# Altium footprint library MainBoard.PcbLib: 34 footprints (part 2 of 3)
Each footprint in its own frame and in the unit in brackets; x right, y up, seen from the top. Pads: shape width x height; smd on the part's side, far side on the other; paste and mask are expansions set on the pad; w line width, h text height; cw(c..) or ccw(c..) is an arc to the next point about the centre after c.
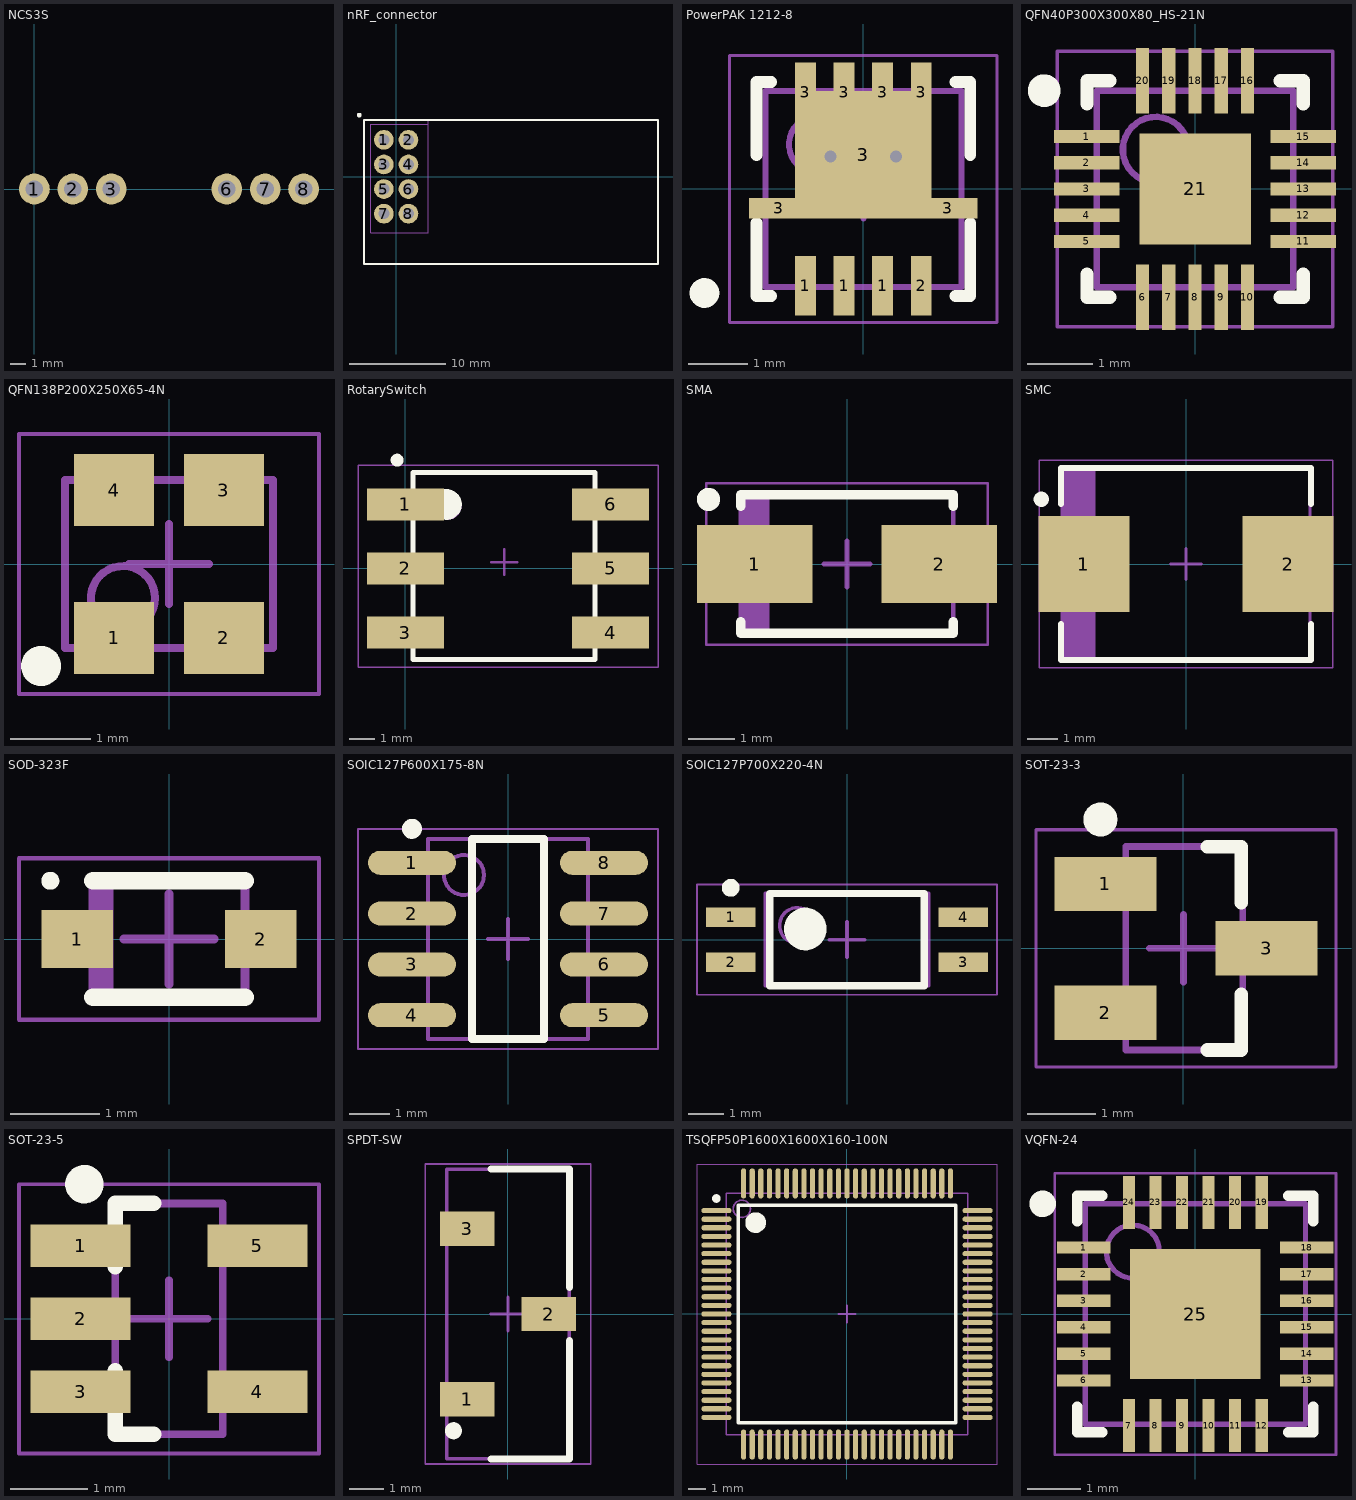
[diagram p1: the footprints below, top view; thin cyan lines are the x and y axes]

## NCS3S [mil] "8-DIP Module"
height 445
pads (6):
  round 80 hole 45: 1(0,0) 2(100,0) 3(200,0) 6(500,0) 7(600,0) 8(700,0)
3D body: height 448.43, standoff -150, extent -79.13,-268.5 779.14,98.43

## nRF_connector [mil]
height 590.55
pads (8):
  round 80 hole 45: 1(-50,150) 2(50,150) 3(-50,50) 4(50,50) 5(-50,-50) 6(50,-50) 7(-50,-150) 8(50,-150)
Top Overlay:
  circle w9.84: c-150,250 r4.92
  lines w7.87: -130,-354.33 -130,230 1062.99,230 1062.99,-354.33 -130,-354.33
Mechanical 13:
  lines w3.94: -102.36,-227.36 -102.36,212.6 130,212.6 130,-227.36 -102.36,-227.36
Mechanical 15:
  lines w1.97: -130,-227.36 -130,230.31 130,230.31 130,-227.36
  lines w3.94: 29.33,50.98 68.7,50.98 ; 49.02,31.3 49.02,70.67
3D body: height 433.07, standoff 393.7, extent -130,-354.33 1062.99,230.31
3D body: height 409.45, standoff 20.08, extent -102.36,-227.36 130,212.6

## PowerPAK 1212-8 [mm] "QFN, 10-Leads, Body 3,30x3,30mm, Pitch 0,65mm, Thermal Pad 2,11x2,11mm, IPC Medium Density"
height 1.04
pads (11):
  rect 0.35x1 smd: 1(-0.975,-1.63) 1(-0.325,-1.63) 1(0.325,-1.63) 2(0.975,-1.63) 3(-0.975,1.63) 3(-0.325,1.63) 3(0.325,1.63) 3(0.975,1.63)
  rect 1x0.35 smd: 3(-1.425,-0.325) 3(1.425,-0.325)
  rect 2.3x2.15 smd: 3(0,0.575)
via 0.55,0.55 diameter 0.5 hole 0.2
via -0.55,0.55 diameter 0.5 hole 0.2
Top Overlay:
  circle w0.25: c-2.675,-1.75 r0.125
  lines w0.2: -1.8,-0.575 -1.8,-1.8 -1.55,-1.8 ; -1.8,0.575 -1.8,1.8 -1.55,1.8 ; 1.55,-1.8 1.8,-1.8 1.8,-0.575 ; 1.55,1.8 1.8,1.8 1.8,0.575
Mechanical 13:
  circle w0.1: c-0.75,0.75 r0.5
  lines w0.1: -1.65,-1.65 1.65,-1.65 1.65,1.65 -1.65,1.65 -1.65,-1.65
Mechanical 15:
  lines w0.05: -2.25,-2.25 2.25,-2.25 2.25,2.25 -2.25,2.25 -2.25,-2.25
  lines w0.1: -0.5,0 0.5,0 ; 0,-0.5 0,0.5
3D body: height 1.04, standoff 0.05, extent -1.65,-1.65 1.65,1.65

## QFN40P300X300X80_HS-21N [mm] "QFN, 20-Leads, Body 3,00x3,00mm, Pitch 0,40mm, Thermal Pad 1,70x1,70mm, IPC Medium Density"
height 0.8
pads (21):
  rect 1x0.2 smd: 1(-1.65,0.8) 2(-1.65,0.4) 3(-1.65,0) 4(-1.65,-0.4) 5(-1.65,-0.8) 11(1.65,-0.8) 12(1.65,-0.4) 13(1.65,0) 14(1.65,0.4) 15(1.65,0.8)
  rect 0.2x1 smd: 6(-0.8,-1.65) 7(-0.4,-1.65) 8(0,-1.65) 9(0.4,-1.65) 10(0.8,-1.65) 16(0.8,1.65) 17(0.4,1.65) 18(0,1.65) 19(-0.4,1.65) 20(-0.8,1.65)
  rect 1.7x1.7 smd: 21(0,0)
Top Overlay:
  circle w0.25: c-2.3,1.5 r0.125
  lines w0.2: -1.65,-1.3 -1.65,-1.65 -1.3,-1.65 ; -1.65,1.3 -1.65,1.65 -1.3,1.65 ; 1.3,-1.65 1.65,-1.65 1.65,-1.3 ; 1.3,1.65 1.65,1.65 1.65,1.3
Mechanical 13:
  circle w0.1: c-0.6,0.6 r0.5
  lines w0.1: -1.5,-1.5 1.5,-1.5 1.5,1.5 -1.5,1.5 -1.5,-1.5
Mechanical 15:
  lines w0.05: -2.1,-2.1 2.1,-2.1 2.1,2.1 -2.1,2.1 -2.1,-2.1
  lines w0.1: -0.5,0 0.5,0 ; 0,-0.5 0,0.5
3D body: height 0.8, standoff 0.05, extent -1.5,-1.5 1.5,1.5

## QFN138P200X250X65-4N [mm] "QFN, 4-Leads, Body 2,00x2,50mm, Pitch 1,63mm/1,38mm, IPC Medium Density"
height 0.65
pads (4):
  rect 1x0.9 smd: 1(-0.687,-0.925) 2(0.687,-0.925) 3(0.687,0.925) 4(-0.687,0.925)
Top Overlay:
  circle w0.25: c-1.6,-1.275 r0.125
Mechanical 13:
  circle w0.1: c-0.575,-0.425 r0.4
  lines w0.1: -1.3,-1.05 1.3,-1.05 1.3,1.05 -1.3,1.05 -1.3,-1.05
Mechanical 15:
  lines w0.05: -1.875,-1.625 1.875,-1.625 1.875,1.625 -1.875,1.625 -1.875,-1.625
  lines w0.1: -0.5,0 0.5,0 ; 0,-0.5 0,0.5
3D body: height 0.65, standoff 0.1, extent -1.3,-1.05 1.3,1.05

## RotarySwitch [mm] "SOP, 4-Leads, Body 6,20x6,20mm, Pitch 4,50mm, IPC Medium Density"
height 3.5
pads (6):
  rect 3x1.25 smd: 1(0,2.5) 2(0,0) 3(0,-2.5) 4(8,-2.5) 5(8,0) 6(8,2.5)
Top Overlay:
  circle w0.25: c-0.325,4.225 r0.125
  lines w0.2: 0.3,-3.55 7.4,-3.55 7.4,3.75 0.3,3.75 0.3,-3.55
  lines w0.6: 1.891,2.573 ccw(c1.6,2.5) 1.9,2.5
Mechanical 13:
  circle w0.1: c1.65,2.45 r0.5
  lines w0.1: 0.3,-3.55 0.3,3.75 7.4,3.75 7.4,-3.55 0.3,-3.55
Mechanical 15:
  lines w0.05: -1.85,-3.85 9.85,-3.85 9.85,4.025 -1.85,4.025 -1.85,-3.85
  lines w0.1: 3.35,0.25 4.35,0.25 ; 3.85,-0.25 3.85,0.75
3D body: height 3.75, standoff 0.15, extent 0.3,-3.55 7.4,3.75

## SMA [mm] "Molded Diode, 2-Leads, Body 4,30x2,60mm, IPC Medium Density"
height 2.3
pads (2):
  rect 2.5x1.7 smd: 1(-2,0) 2(2,0)
Top Overlay:
  circle w0.25: c-3,1.4 r0.125
  lines w0.2: -2.3,-1.25 -2.3,-1.5 2.3,-1.5 2.3,-1.25 ; -2.3,1.25 -2.3,1.5 2.3,1.5 2.3,1.25
Mechanical 13:
  rectangle: -2.3,-1.46 -1.681,1.46
  lines w0.1: -2.3,-1.46 -2.3,1.46 2.3,1.46 2.3,-1.46 -2.3,-1.46
Mechanical 15:
  lines w0.05: -3.05,-1.75 -3.05,1.75 3.05,1.75 3.05,-1.75 -3.05,-1.75
  lines w0.1: -0.5,0 0.5,0 ; 0,-0.5 0,0.5
3D body: height 2.3, standoff 0, extent -2.3,-1.46 2.3,1.46

## SMC [mm] "Molded Diode, 2-Leads, Body 7,95x5,90mm, IPC Medium Density"
height 2.45
pads (2):
  rect 3x3.15 smd: 1(-3.35,0) 2(3.35,0)
Top Overlay:
  circle w0.25: c-4.75,2.125 r0.125
  lines w0.2: -4.1,-1.975 -4.1,-3.15 4.1,-3.15 4.1,-1.975 ; -4.1,1.975 -4.1,3.15 4.1,3.15 4.1,1.975
Mechanical 13:
  rectangle: -4.075,-3.125 -2.979,3.125
  lines w0.1: -4.075,-3.125 -4.075,3.125 4.075,3.125 4.075,-3.125 -4.075,-3.125
Mechanical 15:
  lines w0.05: -4.825,-3.4 -4.825,3.4 4.825,3.4 4.825,-3.4 -4.825,-3.4
  lines w0.1: -0.5,0 0.5,0 ; 0,-0.5 0,0.5
3D body: height 2.45, standoff 0, extent -4.075,-3.125 4.075,3.125

## SOD-323F [mm] "Molded Diode, 2-Leads, Body 1,70x1,25mm, IPC Medium Density"
height 0.7
pads (2):
  rect 0.8x0.65 smd: 1(-1.025,0) 2(1.025,0)
Top Overlay:
  circle w0.1: c-1.325,0.65 r0.05
  lines w0.2: -0.85,-0.65 0.85,-0.65 ; -0.85,0.65 0.85,0.65
Mechanical 13:
  rectangle: -0.85,-0.625 -0.621,0.625
  lines w0.1: -0.85,-0.625 -0.85,0.625 0.85,0.625 0.85,-0.625 -0.85,-0.625
Mechanical 15:
  lines w0.05: -1.675,-0.9 -1.675,0.9 1.675,0.9 1.675,-0.9 -1.675,-0.9
  lines w0.1: -0.5,0 0.5,0 ; 0,-0.5 0,0.5
3D body: height 0.7, standoff 0, extent -0.85,-0.625 0.85,0.625

## SOIC127P600X175-8N [mm] "SOIC, 8-Leads, Body 4,90x3,90mm, Pitch 1,27mm, IPC Medium Density"
height 1.75
pads (8):
  oval 2.2x0.6 smd: 1(-2.4,1.905) 2(-2.4,0.635) 3(-2.4,-0.635) 4(-2.4,-1.905) 5(2.4,-1.905) 6(2.4,-0.635) 7(2.4,0.635) 8(2.4,1.905)
Top Overlay:
  circle w0.25: c-2.4,2.755 r0.125
  lines w0.2: -0.9,-2.5 0.9,-2.5 0.9,2.5 -0.9,2.5 -0.9,-2.5
Mechanical 13:
  circle w0.1: c-1.1,1.6 r0.5
  lines w0.1: -2,-2.5 2,-2.5 2,2.5 -2,2.5 -2,-2.5
Mechanical 15:
  lines w0.05: -3.75,-2.75 3.75,-2.75 3.75,2.75 -3.75,2.75 -3.75,-2.75
  lines w0.1: -0.5,0 0.5,0 ; 0,-0.5 0,0.5
3D body: height 1.75, standoff 0.25, extent -2,-2.5 2,2.5

## SOIC127P700X220-4N [mm] "SOIC, 4-Leads, Body 2,60x4,55mm, Pitch 1,27mm, IPC Medium Density"
height 2.2
pads (4):
  rect 1.4x0.55 smd: 1(-3.275,0.635) 2(-3.275,-0.635) 3(3.275,-0.635) 4(3.275,0.635)
Top Overlay:
  circle w0.25: c-3.275,1.46 r0.125
  circle w0.6: c-1.175,0.3 r0.3
  lines w0.2: -2.175,-1.3 -2.175,1.3 2.175,1.3 2.175,-1.3 -2.175,-1.3
Mechanical 13:
  circle w0.1: c-1.4,0.4 r0.5
  lines w0.1: -2.3,-1.3 -2.3,1.3 2.3,1.3 2.3,-1.3 -2.3,-1.3
Mechanical 15:
  lines w0.05: -4.225,-1.55 -4.225,1.55 4.225,1.55 4.225,-1.55 -4.225,-1.55
  lines w0.1: -0.5,0 0.5,0 ; 0,-0.5 0,0.5
3D body: height 2.2, standoff 0.1, extent -2.3,-1.3 2.3,1.3

## SOT-23-3 [mm] "SOT23, 3-Leads, Body 2,90x2,45mm, Pitch 0,95mm, IPC Medium Density"
height 1.1
pads (3):
  rect 1.5x0.8 smd: 1(-1.15,0.95) 2(-1.15,-0.95) 3(1.225,0)
Top Overlay:
  circle w0.25: c-1.225,1.9 r0.125
  lines w0.2: 0.35,-1.5 0.85,-1.5 0.85,-0.675 ; 0.35,1.5 0.85,1.5 0.85,0.675
Mechanical 13:
  lines w0.1: -0.85,-1.5 0.875,-1.5 0.875,1.5 -0.85,1.5 -0.85,-1.5
Mechanical 15:
  lines w0.05: -2.175,-1.75 2.25,-1.75 2.25,1.75 -2.175,1.75 -2.175,-1.75
  lines w0.1: -0.5,0 0.5,0 ; 0,-0.5 0,0.5
3D body: height 1.1, standoff 0.05, extent -0.85,-1.475 0.875,1.525

## SOT-23-5 [mm] "SOT23, 5-Leads, Body 2,90x2,45mm, Pitch 0,95mm, IPC Medium Density"
height 1.1
pads (5):
  rect 1.3x0.55 smd: 1(-1.15,0.95) 2(-1.15,0) 3(-1.15,-0.95) 4(1.15,-0.95) 5(1.15,0.95)
Top Overlay:
  circle w0.25: c-1.1,1.75 r0.125
  lines w0.2: -0.7,-0.675 -0.7,-1.5 -0.2,-1.5 ; -0.7,0.675 -0.7,1.5 -0.2,1.5
Mechanical 13:
  lines w0.1: -0.7,-1.5 -0.7,1.5 0.7,1.5 0.7,-1.5 -0.7,-1.5
Mechanical 15:
  lines w0.05: -1.95,-1.75 -1.95,1.75 1.95,1.75 1.95,-1.75 -1.95,-1.75
  lines w0.1: -0.5,0 0.5,0 ; 0,-0.5 0,0.5
3D body: height 1.1, standoff 0.05, extent -0.7,-1.5 0.7,1.5

## SPDT-SW [mm] "SOTFL, 3-Leads, Body 8,50x4,00mm, Pitch 2,50mm, IPC Medium Density"
height 3.6
pads (3):
  rect 1.6x1 smd: 1(-1.2,-2.5) 2(1.2,0) 3(-1.2,2.5)
Top Overlay:
  circle w0.25: c-1.6,-3.425 r0.125
  lines w0.2: -0.5,-4.25 1.8,-4.25 1.8,-0.775 ; -0.5,4.25 1.8,4.25 1.8,0.775
Mechanical 13:
  lines w0.1: -1.8,-4.25 1.8,-4.25 1.8,4.25 -1.8,4.25 -1.8,-4.25
Mechanical 15:
  lines w0.05: -2.425,-4.4 2.425,-4.4 2.425,4.4 -2.425,4.4 -2.425,-4.4
  lines w0.1: -0.5,0 0.5,0 ; 0,-0.5 0,0.5
3D body: height 3.6, standoff 0, extent -1.8,-4.25 1.8,4.25

## TSQFP50P1600X1600X160-100N [mm] "TSQFP, 100-Leads, Body 14,00x13,95mm, Pitch 0,50mm, IPC Medium Density"
height 1.6
pads (100):
  oval 1.75x0.3 smd: 1(-7.575,6) 2(-7.575,5.5) 3(-7.575,5) 4(-7.575,4.5) 5(-7.575,4) 6(-7.575,3.5) 7(-7.575,3) 8(-7.575,2.5) 9(-7.575,2) 10(-7.575,1.5) 11(-7.575,1) 12(-7.575,0.5) 13(-7.575,0) 14(-7.575,-0.5) 15(-7.575,-1) 16(-7.575,-1.5) 17(-7.575,-2) 18(-7.575,-2.5) 19(-7.575,-3) 20(-7.575,-3.5) 21(-7.575,-4) 22(-7.575,-4.5) 23(-7.575,-5) 24(-7.575,-5.5) 25(-7.575,-6) 51(7.575,-6) 52(7.575,-5.5) 53(7.575,-5) 54(7.575,-4.5) 55(7.575,-4) 56(7.575,-3.5) 57(7.575,-3) 58(7.575,-2.5) 59(7.575,-2) 60(7.575,-1.5) 61(7.575,-1) 62(7.575,-0.5) 63(7.575,0) 64(7.575,0.5) 65(7.575,1) 66(7.575,1.5) 67(7.575,2) 68(7.575,2.5) 69(7.575,3) 70(7.575,3.5) 71(7.575,4) 72(7.575,4.5) 73(7.575,5) 74(7.575,5.5) 75(7.575,6)
  oval 0.3x1.75 smd: 26(-6,-7.575) 27(-5.5,-7.575) 28(-5,-7.575) 29(-4.5,-7.575) 30(-4,-7.575) 31(-3.5,-7.575) 32(-3,-7.575) 33(-2.5,-7.575) 34(-2,-7.575) 35(-1.5,-7.575) 36(-1,-7.575) 37(-0.5,-7.575) 38(0,-7.575) 39(0.5,-7.575) 40(1,-7.575) 41(1.5,-7.575) 42(2,-7.575) 43(2.5,-7.575) 44(3,-7.575) 45(3.5,-7.575) 46(4,-7.575) 47(4.5,-7.575) 48(5,-7.575) 49(5.5,-7.575) 50(6,-7.575) 76(6,7.575) 77(5.5,7.575) 78(5,7.575) 79(4.5,7.575) 80(4,7.575) 81(3.5,7.575) 82(3,7.575) 83(2.5,7.575) 84(2,7.575) 85(1.5,7.575) 86(1,7.575) 87(0.5,7.575) 88(0,7.575) 89(-0.5,7.575) 90(-1,7.575) 91(-1.5,7.575) 92(-2,7.575) 93(-2.5,7.575) 94(-3,7.575) 95(-3.5,7.575) 96(-4,7.575) 97(-4.5,7.575) 98(-5,7.575) 99(-5.5,7.575) 100(-6,7.575)
Top Overlay:
  circle w0.6: c-5.3,5.3 r0.3
  circle w0.25: c-7.575,6.7 r0.125
  lines w0.2: -6.3,-6.3 6.3,-6.3 6.3,6.3 -6.3,6.3 -6.3,-6.3
Mechanical 13:
  circle w0.1: c-6.1,6.1 r0.5
  lines w0.1: -7,-7 7,-7 7,7 -7,7 -7,-7
Mechanical 15:
  lines w0.05: -8.7,-8.7 8.7,-8.7 8.7,8.7 -8.7,8.7 -8.7,-8.7
  lines w0.1: -0.5,0 0.5,0 ; 0,-0.5 0,0.5
3D body: height 1.6, standoff 0.15, extent -7,-7 7,7

## VQFN-24 [mm] "QFN, 24-Leads, Body 4,00x4,00mm, Pitch 0,50mm, Thermal Pad 2,45x2,45mm, IPC Medium Density"
height 0.8
pads (25):
  rect 1x0.23 smd: 1(-2.1,1.25) 2(-2.1,0.75) 3(-2.1,0.25) 4(-2.1,-0.25) 5(-2.1,-0.75) 6(-2.1,-1.25) 13(2.1,-1.25) 14(2.1,-0.75) 15(2.1,-0.25) 16(2.1,0.25) 17(2.1,0.75) 18(2.1,1.25)
  rect 0.23x1 smd: 7(-1.25,-2.1) 8(-0.75,-2.1) 9(-0.25,-2.1) 10(0.25,-2.1) 11(0.75,-2.1) 12(1.25,-2.1) 19(1.25,2.1) 20(0.75,2.1) 21(0.25,2.1) 22(-0.25,2.1) 23(-0.75,2.1) 24(-1.25,2.1)
  rect 2.45x2.45 smd: 25(0,0)
Top Overlay:
  circle w0.25: c-2.875,2.075 r0.125
  lines w0.2: -2.225,-1.75 -2.225,-2.225 -1.75,-2.225 ; -2.225,1.75 -2.225,2.225 -1.75,2.225 ; 1.75,-2.225 2.225,-2.225 2.225,-1.75 ; 1.75,2.225 2.225,2.225 2.225,1.75
Mechanical 13:
  circle w0.1: c-1.175,1.175 r0.5
  lines w0.1: -2.075,-2.075 2.075,-2.075 2.075,2.075 -2.075,2.075 -2.075,-2.075
Mechanical 15:
  lines w0.05: -2.65,-2.65 2.65,-2.65 2.65,2.65 -2.65,2.65 -2.65,-2.65
  lines w0.1: -0.5,0 0.5,0 ; 0,-0.5 0,0.5
3D body: height 0.8, standoff 0.01, extent -2.075,-2.075 2.075,2.075